# EAGLE library part SD_CARDHOLD (library pinhead_MDB)
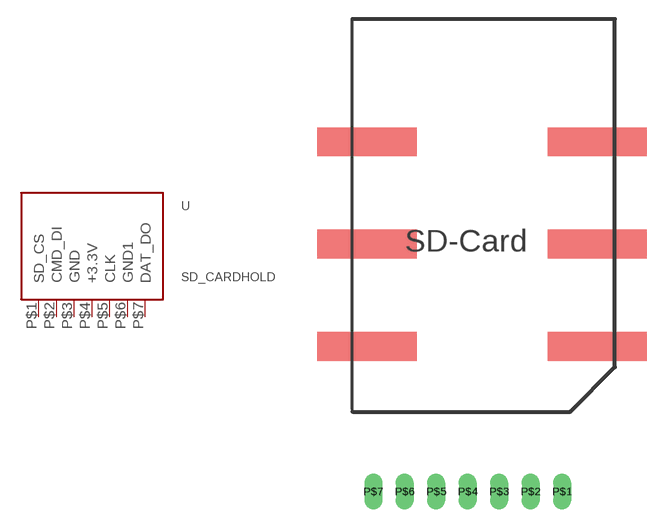
[diagram p53: symbol with the pads of SD_CARDHOLD; footprint SD_CARDHOLD]

Designator prefix -

## SD_CARDHOLD  [SD_CARDHOLD]
P$1  SD_CS
P$2  CMD_DI
P$3  GND
P$4  +3.3V
P$5  CLK
P$6  GND1
P$7  DAT_DO

## Footprint SD_CARDHOLD (pad centres in mm)
drill 0.8 pad 1.422 long: P$1 7.5,0; P$2 5,0; P$3 2.5,0; P$4 0,0; P$5 -2.5,0; P$6 -5,0; P$7 -7.5,0